# Altium footprint library Guitar_Multi_Effect_lib.PcbLib: 38 footprints (part 1 of 3)
Each footprint in its own frame and in the unit in brackets; x right, y up, seen from the top. Pads: shape width x height; smd on the part's side, far side on the other; paste and mask are expansions set on the pad; w line width, h text height; cw(c..) or ccw(c..) is an arc to the next point about the centre after c.
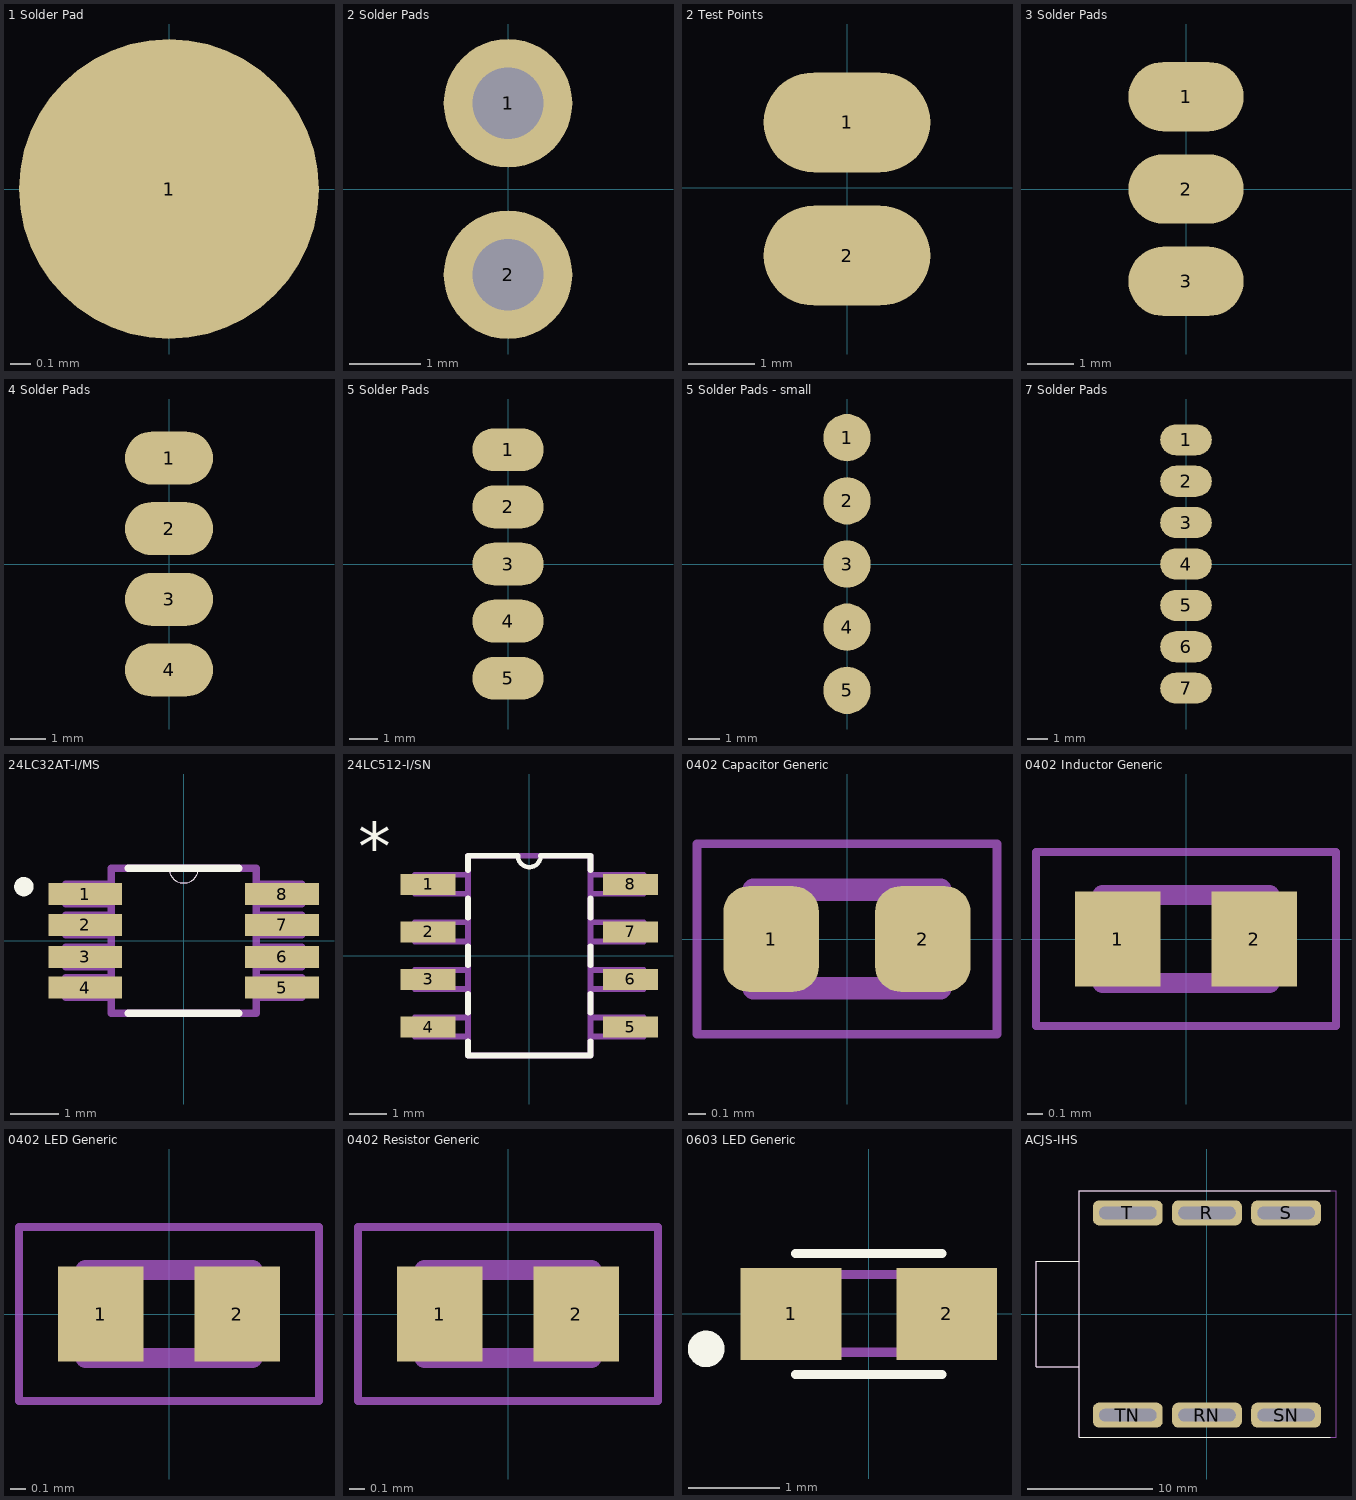
[diagram p0: the footprints below, top view; thin cyan lines are the x and y axes]

## 1 Solder Pad [mm]
pads (1):
  round 1.5 smd: 1(0,0)

## 2 Solder Pads [mm]
pads (2):
  round 1.8 hole 1: 1(0,1.2) 2(0,-1.2)

## 2 Test Points [mm]
pads (2):
  oval 2.5x1.5 smd: 1(0,0.984) 2(0,-1.016)

## 3 Solder Pads [mm]
pads (3):
  oval 2.5x1.5 smd: 1(0,2) 2(0,0) 3(0,-2)

## 4 Solder Pads [mm]
pads (4):
  oval 2.5x1.5 smd: 1(0,3) 2(0,1) 3(0,-1) 4(0,-3)

## 5 Solder Pads [mm]
pads (5):
  oval 2.5x1.5 smd: 1(0,4) 2(0,2) 3(0,0) 4(0,-2) 5(0,-4)

## 5 Solder Pads - small [mm]
pads (5):
  round 1.5 smd: 1(0,4) 2(0,2) 3(0,0) 4(0,-2) 5(0,-4)

## 7 Solder Pads [mm]
pads (7):
  oval 2.5x1.5 smd: 1(0,6) 2(0,4) 3(0,2) 4(0,0) 5(0,-2) 6(0,-4) 7(0,-6)

## 24LC32AT-I/MS [mil]
pads (8):
  rect 60x18 smd: 1(-80,38) 2(-80,13) 3(-80,-13) 4(-80,-38) 5(80,-38) 6(80,-13) 7(80,13) 8(80,38)
Top Overlay:
  circle w7.87: c-129.92,44.06 r3.94
  lines w0: -12,59 ccw(c0,59) 12,59
  lines w6: -45,-59 45,-59 ; -45,59 -12,59 12,59 45,59
Mechanical 13:
  lines w0: -12,59 ccw(c0,59) 12,59
  lines w6: -96,-46 -59,-46 -59,-30 -96,-30 -96,-46 ; -96,-21 -59,-21 -59,-5 -96,-5 -96,-21 ; -96,5 -59,5 -59,21 -96,21 -96,5 ; -96,30 -59,30 -59,46 -96,46 -96,30 ; -59,-59 -59,59 -12,59 12,59 59,59 59,-59 -59,-59 ; 59,-46 96,-46 96,-30 59,-30 59,-46 ; 59,-21 96,-21 96,-5 59,-5 59,-21 ; 59,5 96,5 96,21 59,21 59,5 ; 59,30 96,30 96,46 59,46 59,30
3D body "msop-8.SLDPRT": height 45.28, standoff 0, extent -96.46,-59.06 96.46,59.06

## 24LC512-I/SN [mil]
pads (8):
  rect 58x22 smd: 1(-106.3,75) 2(-106.3,25) 3(-106.3,-25) 4(-106.3,-75) 5(106.3,-75) 6(106.3,-25) 7(106.3,25) 8(106.3,75)
Top Overlay:
  lines w4.72: -12,105 ccw(c0,105) 12,105
  lines w6: -64.31,-90 -64.31,-105 64.31,-105 64.31,-90 ; -64.31,-60 -64.31,-40 ; -64.31,-10 -64.31,10 ; -64.31,40 -64.31,60 ; -64.31,90 -64.31,105 -12,105 ; 12,105 64.31,105 64.31,90 ; 64.31,-60 64.31,-40 ; 64.31,-10 64.31,10 ; 64.31,40 64.31,60
  text "*" at -180,90 h50.08
Mechanical 13:
  lines w0: -12,105 ccw(c0,105) 12,105
  lines w5.98: -64.31,-105 64.31,-105 ; -64.31,105 -12,105 ; 12,105 64.31,105
  lines w6: -64.31,-105 -64.31,105 ; -12,105 12,105 ; 64.31,-105 64.31,105 ; -120.31,-85 -64.31,-85 -64.31,-65 -120.31,-65 -120.31,-85 ; -120.31,-35 -64.31,-35 -64.31,-15 -120.31,-15 -120.31,-35 ; -120.31,15 -64.31,15 -64.31,35 -120.31,35 -120.31,15 ; -120.31,65 -64.31,65 -64.31,85 -120.31,85 -120.31,65 ; 64.31,-85 64.31,-65 120.31,-65 120.31,-85 64.31,-85 ; 64.31,-35 64.31,-15 120.31,-15 120.31,-35 64.31,-35 ; 64.31,15 64.31,35 120.31,35 120.31,15 64.31,15 ; 64.31,65 64.31,85 120.31,85 120.31,65 64.31,65
  text "*" at -180,90 h50.03
3D body "SN.STEP": height 68.9, standoff 0, extent -118.11,-96.46 118.11,96.46

## 0402 Capacitor Generic [mm]
pads (2):
  rrect53% 0.54x0.6 smd: 1(-0.43,0) 2(0.43,0)
Mechanical 13:
  lines w0.127: -0.53,-0.28 -0.53,0.28 0.53,0.28 0.53,-0.28 -0.53,-0.28
Mechanical 15:
  lines w0.05: -0.85,-0.54 -0.85,0.54 0.85,0.54 0.85,-0.54 -0.85,-0.54
3D body "csmd-0402_l1_w0-5_h0-5.stp": height 0.5, standoff 0, extent -0.5,-0.25 0.5,0.25

## 0402 Inductor Generic [mm]
pads (2):
  rect 0.54x0.6 smd: 1(-0.432,0) 2(0.432,0)
Mechanical 13:
  lines w0.127: -0.53,-0.28 -0.53,0.28 0.53,0.28 0.53,-0.28 -0.53,-0.28
Mechanical 15:
  lines w0.05: -0.95,-0.55 -0.95,0.55 0.95,0.55 0.95,-0.55 -0.95,-0.55
3D body "MLG1005S15NJT000.STEP": height 0.5, standoff 0, extent -0.5,-0.28 0.5,0.27

## 0402 LED Generic [mm]
pads (2):
  rect 0.54x0.6 smd: 1(-0.432,0) 2(0.432,0)
Mechanical 13:
  lines w0.127: -0.53,-0.28 0.53,-0.28 0.53,0.28 -0.53,0.28 -0.53,-0.28
Mechanical 15:
  lines w0.05: -0.95,-0.55 0.95,-0.55 0.95,0.55 -0.95,0.55 -0.95,-0.55
3D body "XZxx68x-2.step": height 0.5, standoff 0, extent -0.5,-0.25 0.5,0.25

## 0402 Resistor Generic [mm]
pads (2):
  rect 0.54x0.6 smd: 1(-0.432,0) 2(0.432,0)
Mechanical 13:
  lines w0.127: -0.53,-0.28 -0.53,0.28 0.53,0.28 0.53,-0.28 -0.53,-0.28
Mechanical 15:
  lines w0.05: -0.95,-0.55 -0.95,0.55 0.95,0.55 0.95,-0.55 -0.95,-0.55
3D body "rsmd-0402_l1_w0-5_h0-32.stp": height 0.32, standoff 0, extent -0.5,-0.25 0.5,0.25

## 0603 LED Generic [mm]
pads (2):
  rect 1.1x1 smd: 1(-0.85,0) 2(0.85,0)
Top Overlay:
  circle w0.2: c-1.778,-0.381 r0.1
  lines w0.1: -0.8,-0.66 0.8,-0.66 ; -0.8,0.66 0.8,0.66
Mechanical 13:
  region: 0.83,-0.471 0.331,-0.471 0.331,0.48 0.83,0.48
  region: -0.338,-0.47 -0.838,-0.47 -0.838,0.48 -0.338,0.48
  lines w0.102: -0.356,-0.419 0.356,-0.419 ; -0.356,0.432 0.356,0.432
3D body "LED Green SMD 0603 Würth 150060BS55040.stp": height 0.4, standoff 0, extent -0.8,-0.4 0.8,0.4

## ACJS-IHS [mm]
pads (6):
  rrect50% 5.6x2 hole 1 slot 4.6 at 0 deg: R(0,8.115) RN(0,-8.115) S(6.35,8.115) SN(6.35,-8.115) T(-6.35,8.115) TN(-6.35,-8.115)
Top Overlay:
  lines w0.1: 9.906,-9.906 -10.25,-9.906 -10.25,-4.25 ; 9.906,9.906 -10.25,9.906 -10.25,4.25 ; -10.25,-4.25 -10.25,4.25 ; -10.25,-4.25 -13.716,-4.25 -13.716,4.25 -10.25,4.25
Mechanical 1:
  lines w0.1: 10.35,-5.7 10.35,5.7
Mechanical 2:
  lines w0.1: -10.25,-4.25 -10.25,4.25 ; -10.25,-4.25 -10.25,-9.906 10.35,-9.906 10.35,-5.7 10.35,5.7 10.35,9.906 -10.25,9.906 -10.25,4.25 ; -10.25,-4.25 -13.716,-4.25 -13.716,4.25 -10.25,4.25
3D body "ACJS-IHS (1).stp": height 16.05, standoff -4.2, extent -14.3,-10 18.55,10